# Altium footprint library PHOENIX_1711026.PcbLib: 1 footprints
Each footprint in its own frame and in the unit in brackets; x right, y up, seen from the top. Pads: shape width x height; smd on the part's side, far side on the other; paste and mask are expansions set on the pad; w line width, h text height; cw(c..) or ccw(c..) is an arc to the next point about the centre after c.
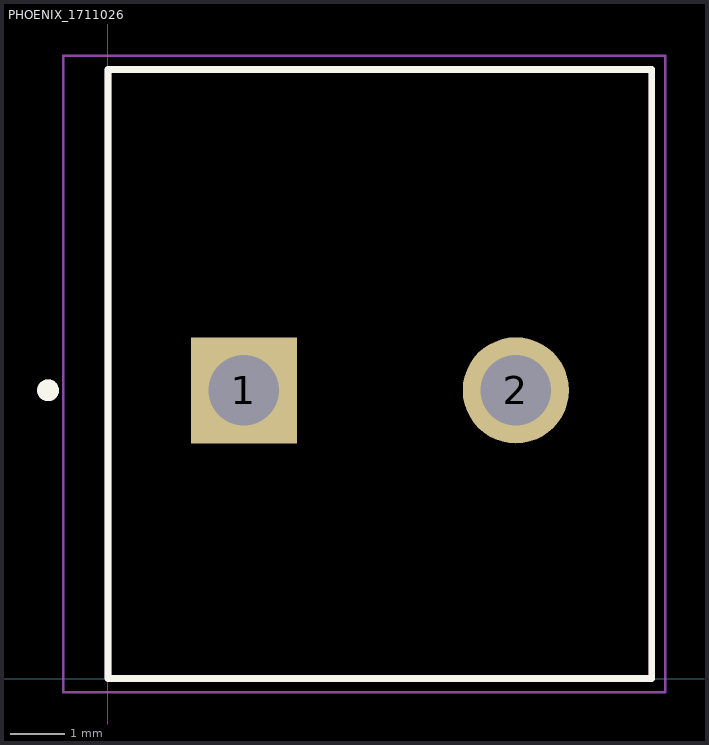
[diagram p0: the footprint, top view; thin cyan lines are the x and y axes]

## PHOENIX_1711026 [mm]
height 18.2
pads (2):
  rect 1.95x1.95 / inner round 1.95 / far side rect 1.95x1.95 hole 1.3: 1(2.5,5.3)
  round 1.95 hole 1.3: 2(7.5,5.3)
Top Overlay:
  circle w0.2: c-1.1,5.3 r0.1
  lines w0.127: 0,0 10,0 10,11.2 0,11.2 0,0
Mechanical 13:
  circle w0.2: c-1.1,5.3 r0.1
  lines w0.127: 0,0 10,0 10,11.2 0,11.2 0,0
Mechanical 15:
  lines w0.05: -0.82,-0.25 10.25,-0.25 10.25,11.45 -0.82,11.45 -0.82,-0.25